# Altium footprint library PcbLib1.PcbLib: 9 footprints
Each footprint in its own frame and in the unit in brackets; x right, y up, seen from the top. Pads: shape width x height; smd on the part's side, far side on the other; paste and mask are expansions set on the pad; w line width, h text height; cw(c..) or ccw(c..) is an arc to the next point about the centre after c.
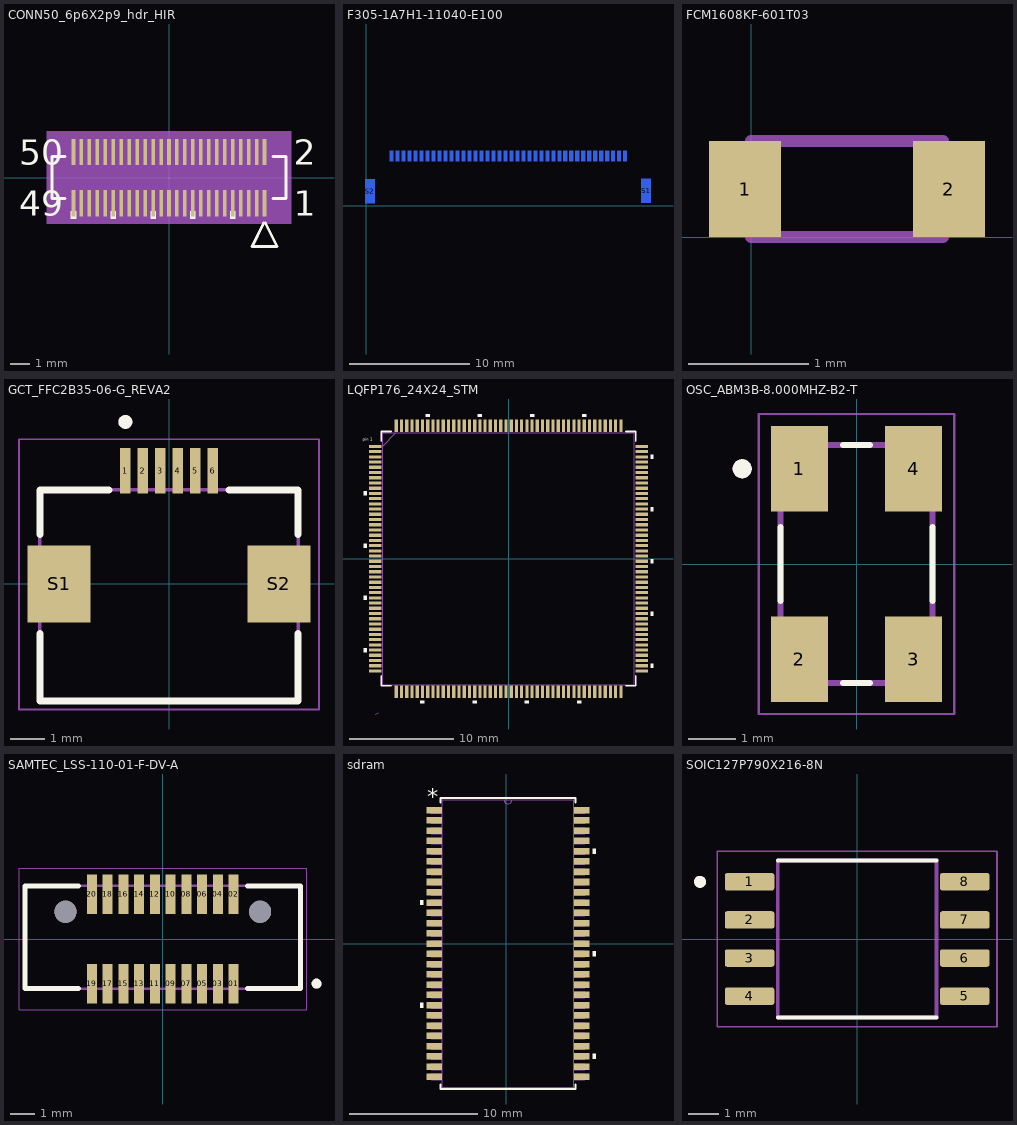
[diagram p0: the footprints below, top view; thin cyan lines are the x and y axes]

## CONN50_6p6X2p9_hdr_HIR [mil]
pads (50):
  rect 7x52 smd paste+0 mask+0: 1(188.98,-50.5) 2(188.98,50.5) 3(173.23,-50.5) 4(173.23,50.5) 5(157.48,-50.5) 6(157.48,50.5) 7(141.73,-50.5) 8(141.73,50.5) 9(125.98,-50.5) 10(125.98,50.5) 11(110.24,-50.5) 12(110.24,50.5) 13(94.49,-50.5) 14(94.49,50.5) 15(78.74,-50.5) 16(78.74,50.5) 17(62.99,-50.5) 18(62.99,50.5) 19(47.24,-50.5) 20(47.24,50.5) 21(31.5,-50.5) 22(31.5,50.5) 23(15.75,-50.5) 24(15.75,50.5) 25(0,-50.5) 26(0,50.5) 27(-15.75,-50.5) 28(-15.75,50.5) 29(-31.5,-50.5) 30(-31.5,50.5) 31(-47.24,-50.5) 32(-47.24,50.5) 33(-62.99,-50.5) 34(-62.99,50.5) 35(-78.74,-50.5) 36(-78.74,50.5) 37(-94.49,-50.5) 38(-94.49,50.5) 39(-110.24,-50.5) 40(-110.24,50.5) 41(-125.98,-50.5) 42(-125.98,50.5) 43(-141.73,-50.5) 44(-141.73,50.5) 45(-157.48,-50.5) 46(-157.48,50.5) 47(-173.23,-50.5) 48(-173.23,50.5) 49(-188.98,-50.5) 50(-188.98,50.5)
Top Overlay:
  region: 130.98,-66.5 120.98,-66.5 120.98,-81.5 130.98,-81.5
  region: 52.24,-66.5 42.24,-66.5 42.24,-81.5 52.24,-81.5
  region: -26.5,-66.5 -36.5,-66.5 -36.5,-81.5 -26.5,-81.5
  region: -105.24,-66.5 -115.24,-66.5 -115.24,-81.5 -105.24,-81.5
  region: -183.98,-66.5 -193.98,-66.5 -193.98,-81.5 -183.98,-81.5
  lines w6: -205.58,-41.5 -231.77,-41.5 -231.77,41.5 -205.58,41.5 ; 187.48,-89.6 163.98,-136.6 213.98,-136.6 190.48,-89.6 ; 205.58,-41.5 231.77,-41.5 231.77,41.5 205.58,41.5
  text "2" at 246.77,25.5 h50
  text "1" at 246.77,-75.5 h50
  text "50" at -296.77,25.5 h50
  text "49" at -296.77,-75.5 h50
Mechanical 5:
  region: 241.77,-91.5 -241.77,-91.5 -241.77,91.5 241.77,91.5
Mechanical 13:
  lines w1: -226.77,-36.5 226.77,-36.5 226.77,36.5 -226.77,36.5 -226.77,-36.5 ; 163.98,-136.6 188.98,-86.6 213.98,-136.6 163.98,-136.6
  text "2" at 246.77,25.5 h50
  text "1" at 246.77,-75.5 h50
  text "50" at -296.77,25.5 h50
  text "49" at -296.77,-75.5 h50
Mechanical 15:
  region: -202.48,-46.5 -236.77,-46.5 -236.77,46.5 -202.48,46.5 -202.48,86.5 202.48,86.5 202.48,46.5 236.77,46.5 236.77,-46.5 202.48,-46.5 202.48,-86.5 -202.48,-86.5
  region: 226.77,-36.5 -226.77,-36.5 -226.77,36.5 226.77,36.5
  lines w6: -236.77,-46.5 -236.77,46.5 -202.48,46.5 -202.48,86.5 202.48,86.5 202.48,46.5 236.77,46.5 236.77,-46.5 202.48,-46.5 202.48,-86.5 -202.48,-86.5 -202.48,-46.5 -236.77,-46.5
3D body "CONN50_6p6X2p9_hdr_HIR.step": height 50.79, standoff 0, extent -196.85,-66.18 196.85,65.79

## F305-1A7H1-11040-E100 [mm]
pads (42):
  rect 0.3x0.85 smd far side: 1(21.626,4.14) 2(21.126,4.14) 3(20.626,4.14) 4(20.126,4.14) 5(19.626,4.14) 6(19.126,4.14) 7(18.626,4.14) 8(18.126,4.14) 9(17.626,4.14) 10(17.126,4.14) 11(16.626,4.14) 12(16.126,4.14) 13(15.626,4.14) 14(15.126,4.14) 15(14.626,4.14) 16(14.126,4.14) 17(13.626,4.14) 18(13.126,4.14) 19(12.626,4.14) 20(12.126,4.14) 21(11.626,4.14) 22(11.126,4.14) 23(10.626,4.14) 24(10.126,4.14) 25(9.626,4.14) 26(9.126,4.14) 27(8.626,4.14) 28(8.126,4.14) 29(7.626,4.14) 30(7.126,4.14) 31(6.626,4.14) 32(6.126,4.14) 33(5.626,4.14) 34(5.126,4.14) 35(4.626,4.14) 36(4.126,4.14) 37(3.626,4.14) 38(3.126,4.14) 39(2.626,4.14) 40(2.126,4.14)
  rect 0.8x2 smd far side: S1(23.368,1.245) S2(0.316,1.188)
Bottom Overlay:
  lines w0.1: -0.33,-1.803 23.978,-1.803 23.978,3.912 -0.305,3.912 -0.33,3.886 -0.33,-1.803
3D body "f300.stp": height 0.05, standoff -1.95, extent -0.284,-1.357 24.016,4.343

## FCM1608KF-601T03 [mil]
pads (2):
  rect 23.62x31.5 smd: 1(-1.97,15.75) 2(64.96,15.75)
Mechanical 7:
  lines w3.94: 0,0 62.99,0 62.99,31.5 0,31.5 0,0

## GCT_FFC2B35-06-G_REVA2 [mm]
pads (8):
  rect 0.3x1.3 smd: 1(-1.25,3.25) 2(-0.75,3.25) 3(-0.25,3.25) 4(0.25,3.25) 5(0.75,3.25) 6(1.25,3.25)
  rect 1.8x2.2 smd: S1(-3.15,0) S2(3.15,0)
Top Overlay:
  circle w0.2: c-1.25,4.646 r0.1
  lines w0.2: -3.7,-1.42 -3.7,-3.35 3.7,-3.35 3.7,-1.42 ; -3.7,1.42 -3.7,2.7 -1.72,2.7 ; 1.72,2.7 3.7,2.7 3.7,1.42
Mechanical 13:
  circle w0.2: c-1.25,4.646 r0.1
  lines w0.1: -3.7,-3.35 -3.7,2.7 3.7,2.7 3.7,-3.35 -3.7,-3.35
Mechanical 15:
  lines w0.05: -4.3,-3.6 4.3,-3.6 4.3,4.15 -4.3,4.15 -4.3,-3.6
3D body "687106149022_Download_STP_687106149022_rev1.stp": height 2.24, standoff -0.01, extent -3.55,-3.169 3.55,3.331

## LQFP176_24X24_STM [mil]
pads (176):
  rect 47x12 smd paste+0 mask+0: 1(-501.97,423.23) 2(-501.97,403.54) 3(-501.97,383.86) 4(-501.97,364.17) 5(-501.97,344.49) 6(-501.97,324.8) 7(-501.97,305.12) 8(-501.97,285.43) 9(-501.97,265.75) 10(-501.97,246.06) 11(-501.97,226.38) 12(-501.97,206.69) 13(-501.97,187.01) 14(-501.97,167.32) 15(-501.97,147.64) 16(-501.97,127.95) 17(-501.97,108.27) 18(-501.97,88.58) 19(-501.97,68.9) 20(-501.97,49.21) 21(-501.97,29.53) 22(-501.97,9.84) 23(-501.97,-9.84) 24(-501.97,-29.53) 25(-501.97,-49.21) 26(-501.97,-68.9) 27(-501.97,-88.58) 28(-501.97,-108.27) 29(-501.97,-127.95) 30(-501.97,-147.64) 31(-501.97,-167.32) 32(-501.97,-187.01) 33(-501.97,-206.69) 34(-501.97,-226.38) 35(-501.97,-246.06) 36(-501.97,-265.75) 37(-501.97,-285.43) 38(-501.97,-305.12) 39(-501.97,-324.8) 40(-501.97,-344.49) 41(-501.97,-364.17) 42(-501.97,-383.86) 43(-501.97,-403.54) 44(-501.97,-423.23) 89(501.97,-423.23) 90(501.97,-403.54) 91(501.97,-383.86) 92(501.97,-364.17) 93(501.97,-344.49) 94(501.97,-324.8) 95(501.97,-305.12) 96(501.97,-285.43) 97(501.97,-265.75) 98(501.97,-246.06) 99(501.97,-226.38) 100(501.97,-206.69) 101(501.97,-187.01) 102(501.97,-167.32) 103(501.97,-147.64) 104(501.97,-127.95) 105(501.97,-108.27) 106(501.97,-88.58) 107(501.97,-68.9) 108(501.97,-49.21) 109(501.97,-29.53) 110(501.97,-9.84) 111(501.97,9.84) 112(501.97,29.53) 113(501.97,49.21) 114(501.97,68.9) 115(501.97,88.58) 116(501.97,108.27) 117(501.97,127.95) 118(501.97,147.64) 119(501.97,167.32) 120(501.97,187.01) 121(501.97,206.69) 122(501.97,226.38) 123(501.97,246.06) 124(501.97,265.75) 125(501.97,285.43) 126(501.97,305.12) 127(501.97,324.8) 128(501.97,344.49) 129(501.97,364.17) 130(501.97,383.86) 131(501.97,403.54) 132(501.97,423.23)
  rect 12x47 smd paste+0 mask+0: 45(-423.23,-501.97) 46(-403.54,-501.97) 47(-383.86,-501.97) 48(-364.17,-501.97) 49(-344.49,-501.97) 50(-324.8,-501.97) 51(-305.12,-501.97) 52(-285.43,-501.97) 53(-265.75,-501.97) 54(-246.06,-501.97) 55(-226.38,-501.97) 56(-206.69,-501.97) 57(-187.01,-501.97) 58(-167.32,-501.97) 59(-147.64,-501.97) 60(-127.95,-501.97) 61(-108.27,-501.97) 62(-88.58,-501.97) 63(-68.9,-501.97) 64(-49.21,-501.97) 65(-29.53,-501.97) 66(-9.84,-501.97) 67(9.84,-501.97) 68(29.53,-501.97) 69(49.21,-501.97) 70(68.9,-501.97) 71(88.58,-501.97) 72(108.27,-501.97) 73(127.95,-501.97) 74(147.64,-501.97) 75(167.32,-501.97) 76(187.01,-501.97) 77(206.69,-501.97) 78(226.38,-501.97) 79(246.06,-501.97) 80(265.75,-501.97) 81(285.43,-501.97) 82(305.12,-501.97) 83(324.8,-501.97) 84(344.49,-501.97) 85(364.17,-501.97) 86(383.86,-501.97) 87(403.54,-501.97) 88(423.23,-501.97) 133(423.23,501.97) 134(403.54,501.97) 135(383.86,501.97) 136(364.17,501.97) 137(344.49,501.97) 138(324.8,501.97) 139(305.12,501.97) 140(285.43,501.97) 141(265.75,501.97) 142(246.06,501.97) 143(226.38,501.97) 144(206.69,501.97) 145(187.01,501.97) 146(167.32,501.97) 147(147.64,501.97) 148(127.95,501.97) 149(108.27,501.97) 150(88.58,501.97) 151(68.9,501.97) 152(49.21,501.97) 153(29.53,501.97) 154(9.84,501.97) 155(-9.84,501.97) 156(-29.53,501.97) 157(-49.21,501.97) 158(-68.9,501.97) 159(-88.58,501.97) 160(-108.27,501.97) 161(-127.95,501.97) 162(-147.64,501.97) 163(-167.32,501.97) 164(-187.01,501.97) 165(-206.69,501.97) 166(-226.38,501.97) 167(-246.06,501.97) 168(-265.75,501.97) 169(-285.43,501.97) 170(-305.12,501.97) 171(-324.8,501.97) 172(-344.49,501.97) 173(-364.17,501.97) 174(-383.86,501.97) 175(-403.54,501.97) 176(-423.23,501.97)
Top Overlay:
  region: 535.47,391.36 545.47,391.36 545.47,376.36 535.47,376.36
  region: 535.47,194.51 545.47,194.51 545.47,179.51 535.47,179.51
  region: 535.47,-2.34 545.47,-2.34 545.47,-17.34 535.47,-17.34
  region: 535.47,-199.19 545.47,-199.19 545.47,-214.19 535.47,-214.19
  region: 535.47,-396.04 545.47,-396.04 545.47,-411.04 535.47,-411.04
  region: 273.25,-535.47 258.25,-535.47 258.25,-545.47 273.25,-545.47
  region: 76.4,-535.47 61.4,-535.47 61.4,-545.47 76.4,-545.47
  region: -120.45,-535.47 -135.45,-535.47 -135.45,-545.47 -120.45,-545.47
  region: -317.3,-535.47 -332.3,-535.47 -332.3,-545.47 -317.3,-545.47
  region: -535.47,-336.99 -545.47,-336.99 -545.47,-351.99 -535.47,-351.99
  region: -535.47,-140.14 -545.47,-140.14 -545.47,-155.14 -535.47,-155.14
  region: -535.47,56.71 -545.47,56.71 -545.47,41.71 -535.47,41.71
  region: -535.47,253.56 -545.47,253.56 -545.47,238.56 -535.47,238.56
  region: -297.62,535.47 -312.62,535.47 -312.62,545.47 -297.62,545.47
  region: -100.77,535.47 -115.77,535.47 -115.77,545.47 -100.77,545.47
  region: 96.08,535.47 81.08,535.47 81.08,545.47 96.08,545.47
  region: 292.93,535.47 277.93,535.47 277.93,545.47 292.93,545.47
  lines w6: -479.5,-442.33 -479.5,-479.5 -442.33,-479.5 ; -479.5,442.33 -479.5,479.5 -442.33,479.5 ; 442.33,-479.5 479.5,-479.5 479.5,-442.33 ; 442.33,479.5 479.5,479.5 479.5,442.33
  text "pin 1" at -550,438.55 h20
Mechanical 7:
  lines w1: -501.97,-585.47 -491.97,-580.47
Mechanical 13:
  lines w1: -474.5,424.5 -424.5,474.5 ; -474.5,-474.5 -474.5,474.5 474.5,474.5 474.5,-474.5 -474.5,-474.5
3D body: height 10, standoff 0, extent 0,0 10,10
3D body "LQFP176_24X24_STM.step": height 63.11, standoff 0, extent -511.69,-511.69 511.7,511.7

## OSC_ABM3B-8.000MHZ-B2-T [mm]
pads (4):
  rect 1.2x1.8 smd: 1(-1.2,2) 2(-1.2,-2) 3(1.2,-2) 4(1.2,2)
Top Overlay:
  circle w0.2: c-2.4,2 r0.1
  lines w0.127: -1.6,-0.78 -1.6,0.78 ; -0.28,-2.5 0.28,-2.5 ; -0.28,2.5 0.28,2.5 ; 1.6,-0.78 1.6,0.78
Mechanical 13:
  circle w0.2: c-2.4,2 r0.1
  lines w0.127: -1.6,-2.5 1.6,-2.5 1.6,2.5 -1.6,2.5 -1.6,-2.5
Mechanical 15:
  lines w0.05: -2.05,-3.15 2.05,-3.15 2.05,3.15 -2.05,3.15 -2.05,-3.15
3D body "step_temp.STEP": height 1.1, standoff 0, extent -1.651,-2.54 1.651,2.54

## SAMTEC_LSS-110-01-F-DV-A [mm]
pads (22):
  rect 0.4x1.6 smd: 01(2.857,-1.8) 02(2.857,1.8) 03(2.222,-1.8) 04(2.222,1.8) 05(1.587,-1.8) 06(1.587,1.8) 07(0.953,-1.8) 08(0.953,1.8) 09(0.318,-1.8) 10(0.318,1.8) 11(-0.318,-1.8) 12(-0.318,1.8) 13(-0.953,-1.8) 14(-0.953,1.8) 15(-1.587,-1.8) 16(-1.587,1.8) 17(-2.222,-1.8) 18(-2.222,1.8) 19(-2.857,-1.8) 20(-2.857,1.8)
  round 0.89 hole 0.89 unplated: ""(-3.925,1.1) ""(3.925,1.1)
Top Overlay:
  circle w0.2: c6.2,-1.8 r0.1
  lines w0.2: -3.407,-2 -5.55,-2 -5.55,2.14 -3.407,2.14 ; 3.407,-2 5.55,-2 5.55,2.14 3.407,2.14
Mechanical 13:
  circle w0.2: c6.2,-1.8 r0.1
  lines w0.1: -5.55,-2 -5.55,2.14 ; -5.55,-2 5.55,-2 ; -5.55,-2 -5.55,2.14 ; -5.55,2.14 5.55,2.14 ; -5.55,2.14 5.55,2.14 ; 5.55,-2 5.55,2.14 ; 5.55,-2 5.55,2.14
Mechanical 15:
  lines w0.05: -5.8,-2.85 -5.8,2.85 5.8,2.85 5.8,-2.85 -5.8,-2.85
3D body "LSS-110-01-F-DV-A.stp": height 4.35, standoff -0.95, extent -5.535,-2.304 5.565,2.296

## sdram [mil]
pads (54):
  rect 47x20 smd paste+0 mask+0: 1(-221,409.45) 2(-221,377.95) 3(-221,346.46) 4(-221,314.96) 5(-221,283.46) 6(-221,251.97) 7(-221,220.47) 8(-221,188.98) 9(-221,157.48) 10(-221,125.98) 11(-221,94.49) 12(-221,62.99) 13(-221,31.5) 14(-221,0) 15(-221,-31.5) 16(-221,-62.99) 17(-221,-94.49) 18(-221,-125.98) 19(-221,-157.48) 20(-221,-188.98) 21(-221,-220.47) 22(-221,-251.97) 23(-221,-283.46) 24(-221,-314.96) 25(-221,-346.46) 26(-221,-377.95) 27(-221,-409.45) 28(231,-409.45) 29(231,-377.95) 30(231,-346.46) 31(231,-314.96) 32(231,-283.46) 33(231,-251.97) 34(231,-220.47) 35(231,-188.98) 36(231,-157.48) 37(231,-125.98) 38(231,-94.49) 39(231,-62.99) 40(231,-31.5) 41(231,0) 42(231,31.5) 43(231,62.99) 44(231,94.49) 45(231,125.98) 46(231,157.48) 47(231,188.98) 48(231,220.47) 49(231,251.97) 50(231,283.46) 51(231,314.96) 52(231,346.46) 53(231,377.95) 54(231,409.45)
Top Overlay:
  region: -254.5,133.48 -264.5,133.48 -264.5,118.48 -254.5,118.48
  region: -254.5,-181.48 -264.5,-181.48 -264.5,-196.48 -254.5,-196.48
  region: 264.5,-338.96 274.5,-338.96 274.5,-353.96 264.5,-353.96
  region: 264.5,-24 274.5,-24 274.5,-39 264.5,-39
  region: 264.5,290.96 274.5,290.96 274.5,275.96 264.5,275.96
  lines w6: -202.5,-432.55 -202.5,-446.5 212.5,-446.5 212.5,-432.55 ; -202.5,432.55 -202.5,446.5 212.5,446.5 212.5,432.55
  text "*" at -243.5,424.45 h50
Mechanical 13:
  drawing of 221 lines, arcs and shapes, not listed
  text "*" at -195,388.5 h50
3D body: height 10, standoff 0, extent 5,0 15,10
3D body "TSOP54_II_ISI.step": height 47.09, standoff 0, extent -230.5,-441.49 240.52,441.5

## SOIC127P790X216-8N [mm]
pads (8):
  rrect25% 1.65x0.58 smd: 1(-3.585,1.905) 2(-3.585,0.635) 3(-3.585,-0.635) 4(-3.585,-1.905) 5(3.585,-1.905) 6(3.585,-0.635) 7(3.585,0.635) 8(3.585,1.905)
Top Overlay:
  circle w0.2: c-5.235,1.905 r0.1
  lines w0.127: -2.645,-2.62 2.645,-2.62 ; -2.645,2.62 2.645,2.62
Mechanical 13:
  circle w0.2: c-5.235,1.905 r0.1
  lines w0.127: -2.645,-2.62 -2.645,2.62 2.645,2.62 2.645,-2.62 -2.645,-2.62
Mechanical 15:
  lines w0.05: -4.66,-2.925 -4.66,2.925 4.66,2.925 4.66,-2.925 -4.66,-2.925
3D body "step_temp.STEP": height 2.16, standoff 0, extent -3.99,-2.62 3.99,2.62